# Altium footprint library 封装库.PCBLIB: 282 footprints (part 1 of 18)
Each footprint in its own frame and in the unit in brackets; x right, y up, seen from the top. Pads: shape width x height; smd on the part's side, far side on the other; paste and mask are expansions set on the pad; w line width, h text height; cw(c..) or ccw(c..) is an arc to the next point about the centre after c.
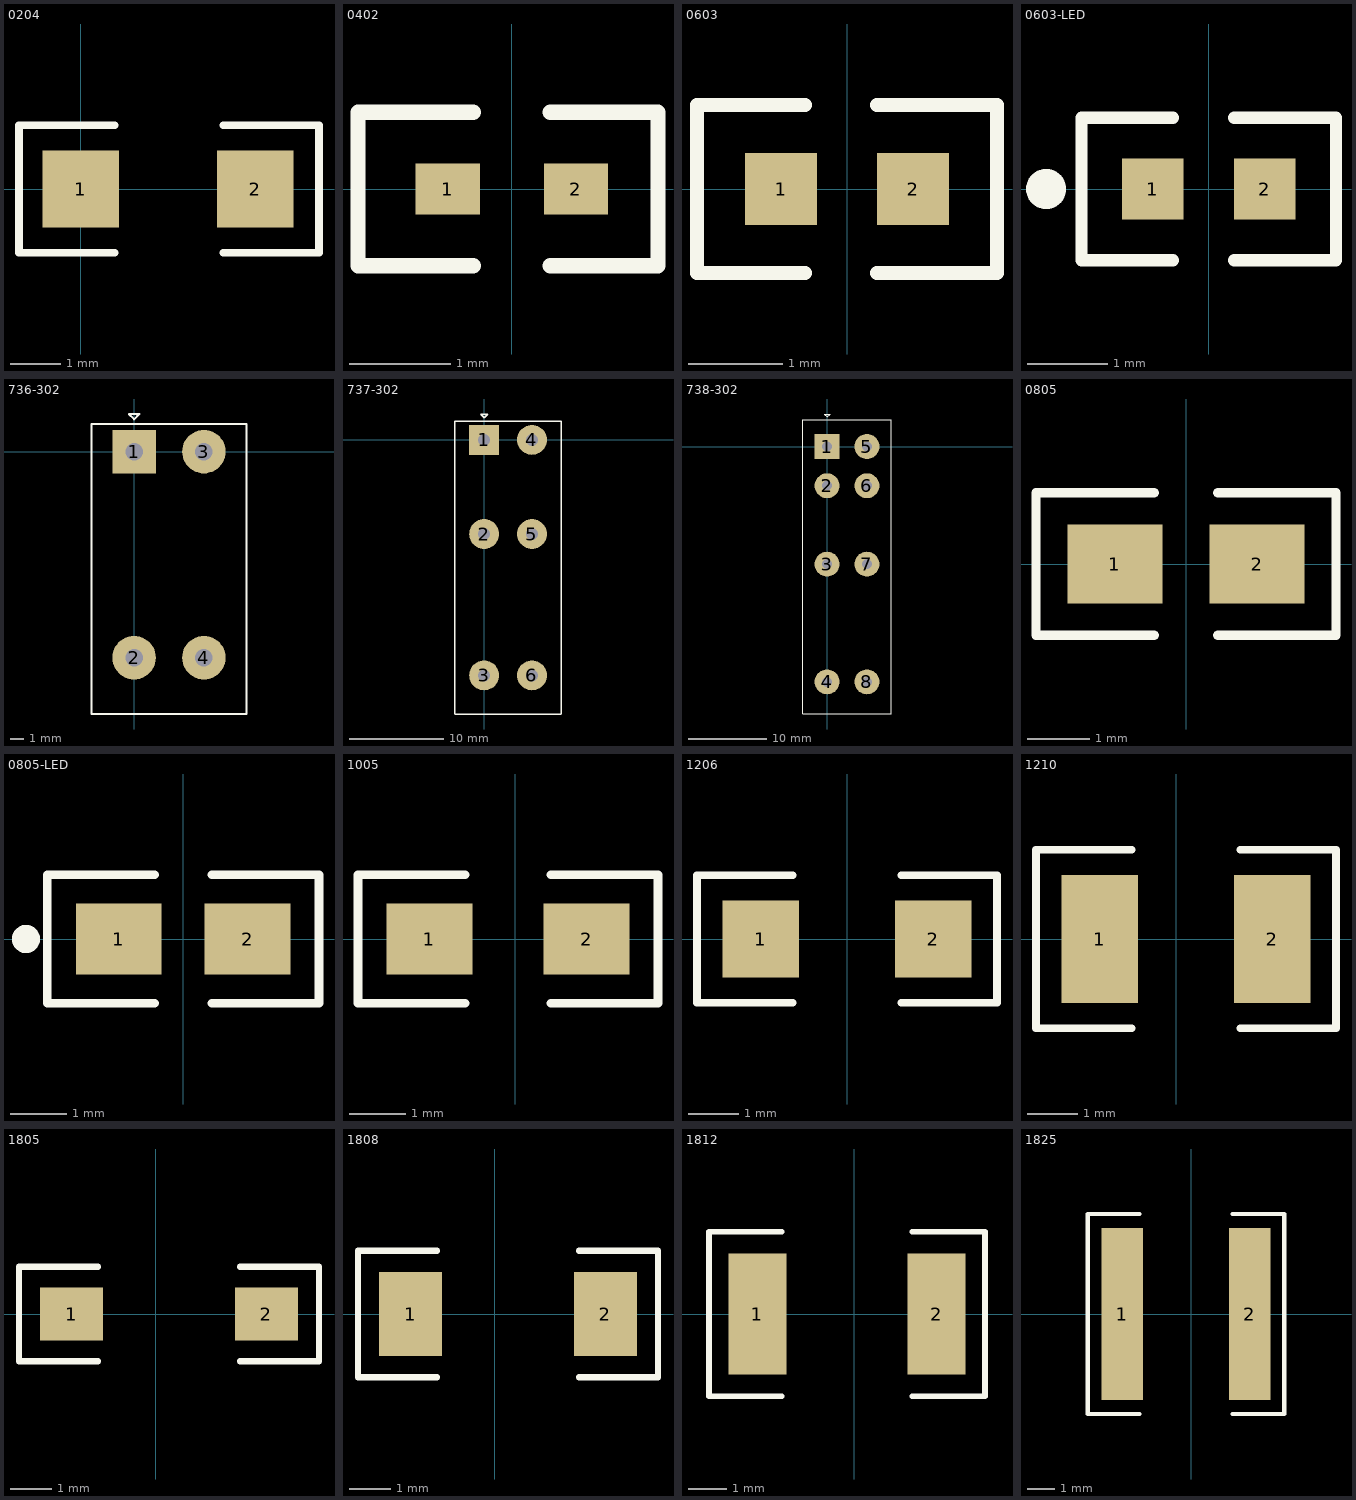
[diagram p0: the footprints below, top view; thin cyan lines are the x and y axes]

## 0204 [mil] "Melf Resistor"
pads (2):
  rect 60x60 smd: 1(0,0) 2(136.5,0)
TopOverlay:
  lines w6: 26.5,-50 -48.5,-50 -48.5,50 26.5,50 ; 111.5,-50 186.5,-50 186.5,50 111.5,50

## 0402 [mil]
pads (2):
  rect 25x20 smd: 1(-25,0) 2(25,0)
TopOverlay:
  lines w6: -15,-30 -60,-30 -60,30 -15,30 ; 15,-30 57,-30 57,30 15,30

## 0603 [mil]
pads (2):
  rect 30x30 smd: 1(-27.5,0) 2(27.5,0)
TopOverlay:
  lines w6: -17.5,-35 -62.5,-35 -62.5,35 -17.5,35 ; 12.5,-35 62.5,-35 62.5,35 12.5,35

## 0603-LED [mil]
pads (2):
  rect 30x30 smd: 1(-27.5,0) 2(27.5,0)
TopOverlay:
  circle w9.84: c-79.92,0 r4.92
  lines w6: -17.5,-35 -62.5,-35 -62.5,35 -17.5,35 ; 12.5,-35 62.5,-35 62.5,35 12.5,35

## 736-302 [mm]
pads (4):
  rect 3.175x3.175 hole 1.27: 1(0,0)
  round 3.175 hole 1.27: 2(0,-15) 3(5.08,0) 4(5.08,-15)
TopOverlay:
  lines w0.152: -3.1,-2.642 -3.1,1.904 ; -3.1,0.838 -3.1,2.005 7.266,2.005 ; -3.1,0.889 -3.1,-18.439 -3.1,-19.098 8.176,-19.098 ; 6.807,2.005 8.18,2.005 8.18,0 ; 8.18,-19.094 8.18,1.27 ; -0.381,2.743 0.381,2.743 0,2.362 -0.381,2.743

## 737-302 [mm]
pads (6):
  rect 3.175x3.175 hole 1.27: 1(0,0)
  round 3.175 hole 1.27: 2(0,-10) 3(0,-25) 4(5.08,0) 5(5.08,-10) 6(5.08,-25)
TopOverlay:
  lines w0.152: -3.1,-29.092 -3.1,0 ; -3.1,-0.61 -3.1,1.992 0.203,1.992 ; -3.092,-29.1 -1.448,-29.1 8.17,-29.1 ; 0,1.992 8.172,1.992 8.172,-29.098 ; -0.381,2.743 0.381,2.743 0,2.362 -0.381,2.743

## 738-302 [mm]
pads (8):
  rect 3.175x3.175 hole 1.27: 1(0,0)
  round 3.175 hole 1.27: 2(0,-5) 3(0,-15) 4(0,-30) 5(5.08,0) 6(5.08,-5) 7(5.08,-15) 8(5.08,-30)
TopOverlay:
  lines w0.152: -3.1,-34.086 -3.1,2.87 ; -3.1,0 -3.1,2.818 ; -3.1,2.591 -3.1,3.395 ; -3.095,3.4 0,3.4 ; -3.086,-34.1 0,-34.1 ; -1.6,3.4 8.175,3.4 ; -1.118,-34.1 8.166,-34.1 ; 8.18,-34.086 8.18,3.124 ; 8.18,-3.199 8.18,0 ; 8.18,-0.33 8.18,3.395 ; -0.381,4.144 0.381,4.144 0,3.763 -0.381,4.144

## 0805 [mil]
pads (2):
  rect 60x50 smd: 1(-45,0) 2(45,0)
TopOverlay:
  lines w6: -20,-45 -95,-45 -95,45 -20,45 ; 20,-45 95,-45 95,45 20,45

## 0805-LED [mil]
pads (2):
  rect 60x50 smd: 1(-45,0) 2(45,0)
TopOverlay:
  circle w9.84: c-109.92,0 r4.92
  lines w6: -20,-45 -95,-45 -95,45 -20,45 ; 20,-45 95,-45 95,45 20,45

## 1005 [mil]
pads (2):
  rect 60x50 smd: 1(-60,0) 2(50,0)
TopOverlay:
  lines w6: -35,-45 -110,-45 -110,45 -35,45 ; 25,-45 100,-45 100,45 25,45

## 1206 [mil]
pads (2):
  rect 60x60 smd: 1(-67.5,0) 2(67.5,0)
TopOverlay:
  lines w6: -42.5,-50 -117.5,-50 -117.5,50 -42.5,50 ; 42.5,-50 117.5,-50 117.5,50 42.5,50

## 1210 [mil]
pads (2):
  rect 60x100 smd: 1(-60,0) 2(75,0)
TopOverlay:
  lines w6: -35,-70 -110,-70 -110,70 -35,70 ; 50,-70 125,-70 125,70 50,70

## 1805 [mil]
pads (2):
  rect 60x50 smd: 1(-80,0) 2(105,0)
TopOverlay:
  lines w6: -55,-45 -130,-45 -130,45 -55,45 ; 80,-45 155,-45 155,45 80,45

## 1808 [mil]
pads (2):
  rect 60x80 smd: 1(-80,0) 2(105,0)
TopOverlay:
  lines w6: -55,-60 -130,-60 -130,60 -55,60 ; 80,-60 155,-60 155,60 80,60

## 1812 [mil]
pads (2):
  rect 60x125 smd: 1(-100,0) 2(85,0)
TopOverlay:
  lines w6: -75,-85 -150,-85 -150,85 -75,85 ; 60,-85 135,-85 135,85 60,85

## 1825 [mil]
pads (2):
  rect 60x250 smd: 1(-100,0) 2(85,0)
TopOverlay:
  lines w6: -75,-145 -150,-145 -150,145 -75,145 ; 60,-145 135,-145 135,145 60,145